# Altium schematic symbol library mysch.SchLib: 34 symbols
Pins are listed as number, name and electrical type; pins without a type are passive.

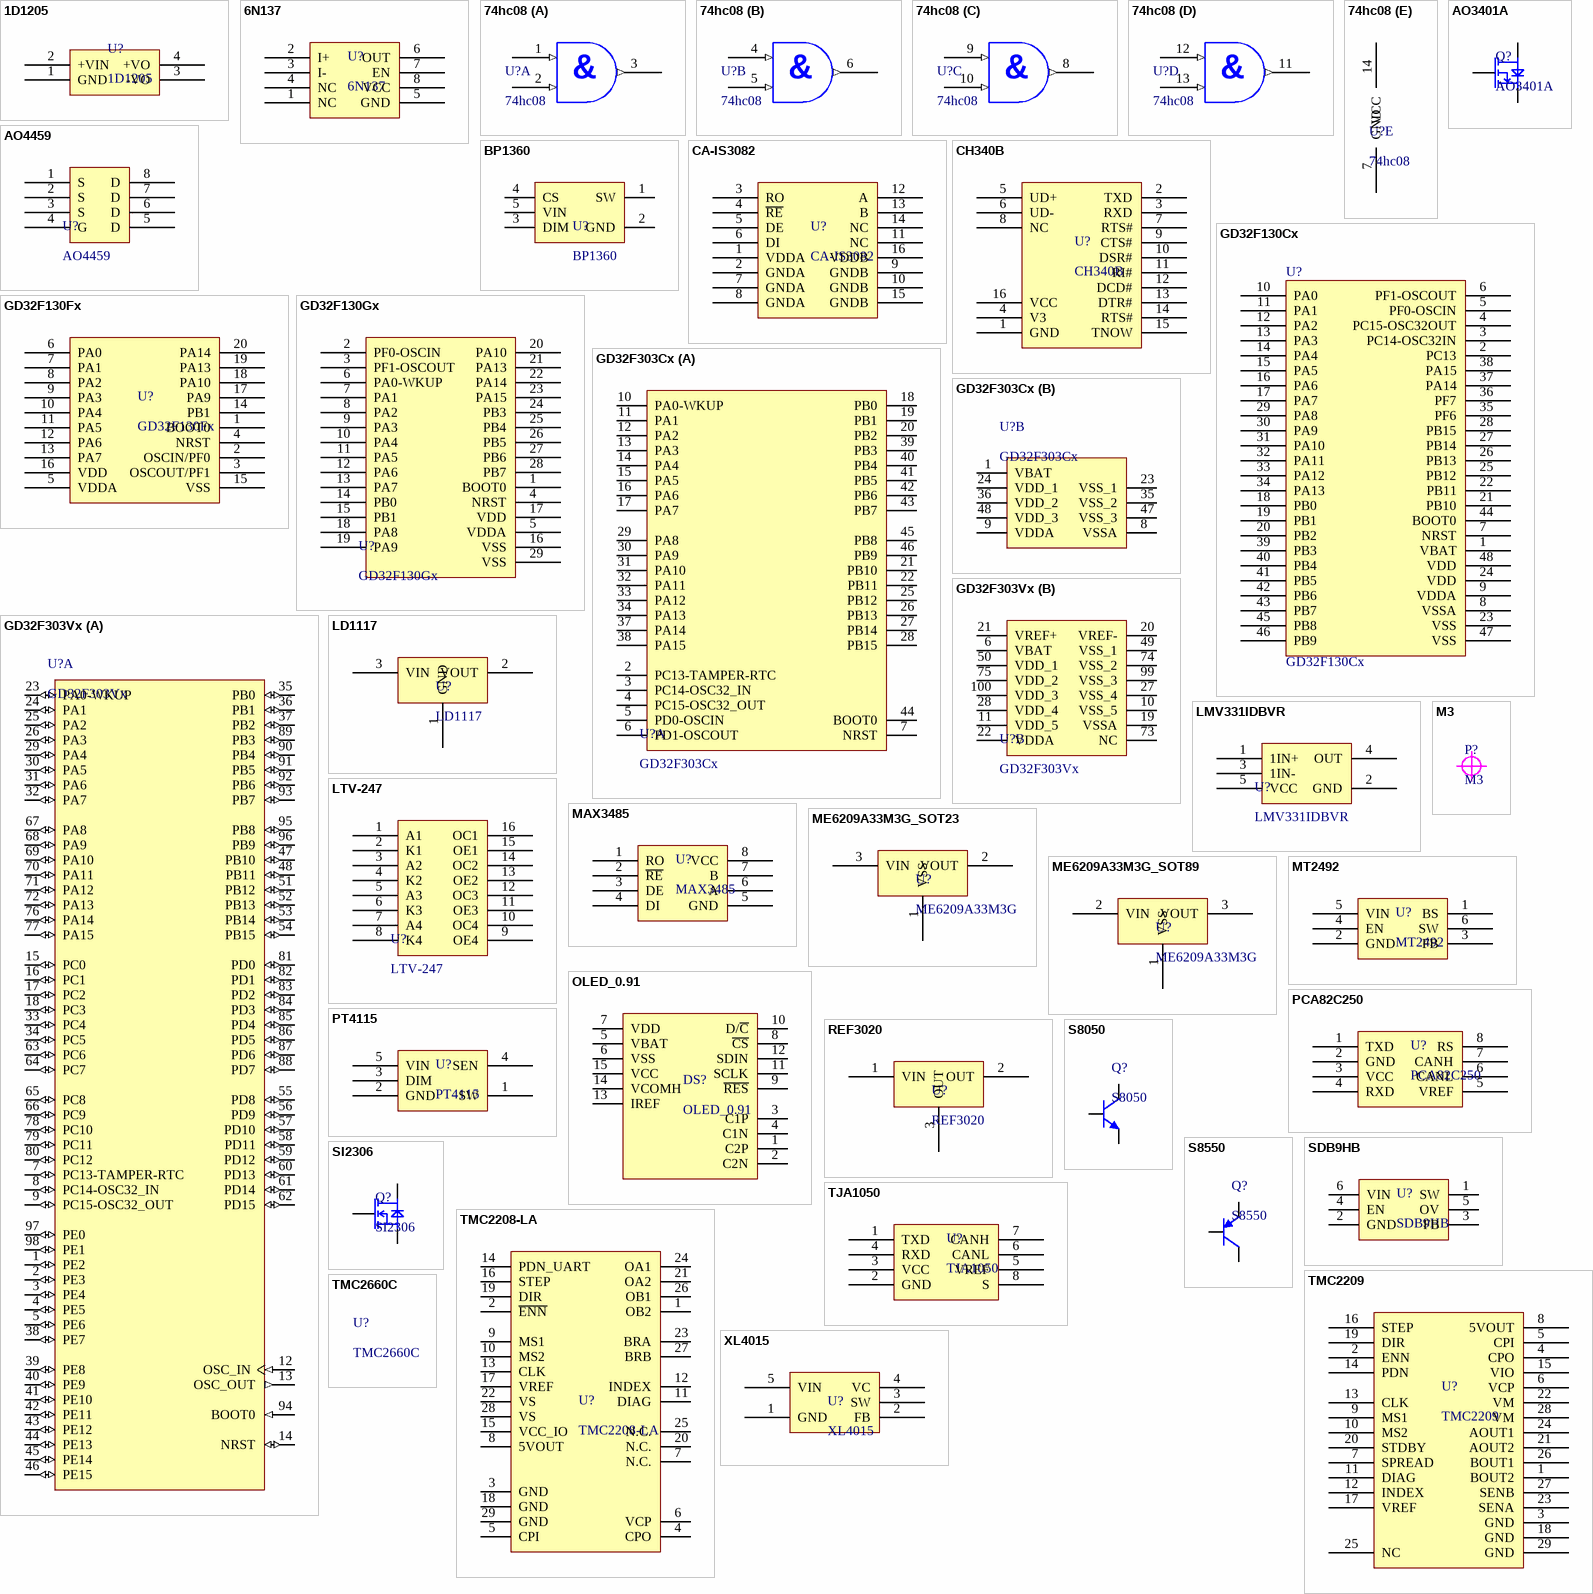
[diagram p0: symbols 1D1205 to XL4015]

## 1D1205
designator U?
DC-DC低功耗隔离非稳压电源模块SIP封装1W
footprint 1D1205
pins: 1 GND, 2 +VIN, 3 -VO, 4 +VO

## 6N137
designator U?
10Mbps 高速数字光耦
footprint 6N137
pins: 1 NC, 2 I+, 3 I-, 4 NC, 5 GND, 6 OUT, 7 EN, 8 VCC

## 74hc08
designator U?
74与门
footprint SOIC-14 (封装库来自淘宝卖家 ID：黄晶宝石，其他均为盗版)
part A pins: 1 IN1 (in), 2 IN2 (in), 3 OUT (out)
part B pins: 4 IN1 (in), 5 IN2 (in), 6 OUT (out)
part C pins: 8 OUT (out), 9 IN1 (in), 10 IN2 (in)
part D pins: 11 OUT (out), 12 IN1 (in), 13 IN2 (in)
part E pins: 7 GND (power), 14 VCC (power)
part A text: &
part B text: &
part C text: &
part D text: &

## AO3401A
designator Q?
MOSFET P沟道 -30V/-4A
footprint SOT23 (封装库来自淘宝卖家 ID：黄晶宝石)
pins: 1 G, 2 S, 3 D

## AO4459
designator U?
SOIC-8 P沟道 -30V/-6.5A 贴片MOSFET
footprint SOIC-8 (封装库来自淘宝卖家 ID：黄晶宝石，其他均为盗版)
pins: 1 S, 2 S, 3 S, 4 G, 5 D, 6 D, 7 D, 8 D

## BP1360
designator U?
30v/500maLED恒流驱动器
footprint Model Name (Footprint not found)
footprint SOT23-5L (3x1.6x1.1mm(长宽高) 封装库来自淘宝卖家 ID：黄晶宝石)
pins: 1 SW, 2 GND, 3 DIM, 4 CS, 5 VIN

## CA-IS3082
designator U?
隔离 5kV 半双工 RS485 收发器
footprint SOIC-16W (封装库来自淘宝卖家 ID：黄晶宝石，其他均为盗版)
pins: 1 VDDA, 2 GNDA, 3 RO, 4 ~{RE}, 5 DE, 6 DI, 7 GNDA, 8 GNDA, 9 GNDB, 10 GNDB, 11 NC, 12 A, 13 B, 14 NC, 15 GNDB, 16 VDDB

## CH340B
designator U?
CH340是一个USB总线的转接芯片，实现USB转串口或者USB转打印口
footprint SOP16_N (10.3*6.2*1.8mm（长宽高）封装库来自淘宝卖家 ID：黄晶宝石)
pins: 1 GND, 2 TXD, 3 RXD, 4 V3, 5 UD+, 6 UD-, 7 RTS#, 8 NC, 9 CTS#, 10 DSR#, 11 RI#, 12 DCD#, 13 DTR#, 14 RTS#, 15 TNOW, 16 VCC

## GD32F130Cx
designator U?
廉价的国产小作坊小芯片
footprint LQFP48_N (封装库来自淘宝 ID：黄晶宝石 Thin QFP, 48-Leads, Body 7x7mm, Pitch 0.5mm, IPC Medium Density)
pins: 1 VBAT, 2 PC13, 3 PC14-OSC32IN, 4 PC15-OSC32OUT, 5 PF0-OSCIN, 6 PF1-OSCOUT, 7 NRST, 8 VSSA, 9 VDDA, 10 PA0, 11 PA1, 12 PA2, 13 PA3, 14 PA4, 15 PA5, 16 PA6, 17 PA7, 18 PB0, 19 PB1, 20 PB2, 21 PB10, 22 PB11, 23 VSS, 24 VDD, 25 PB12, 26 PB13, 27 PB14, 28 PB15, 29 PA8, 30 PA9, 31 PA10, 32 PA11, 33 PA12, 34 PA13, 35 PF6, 36 PF7, 37 PA14, 38 PA15, 39 PB3, 40 PB4, 41 PB5, 42 PB6, 43 PB7, 44 BOOT0, 45 PB8, 46 PB9, 47 VSS, 48 VDD

## GD32F130Fx
designator U?
廉价的国产小作坊小芯片
footprint TSSOP20_N (TSOP, 20-Leads, Body 6.5x4.4mm, Pitch 0.65mm, IPC Medium Density)
pins: 1 BOOT0, 2 OSCIN/PF0, 3 OSCOUT/PF1, 4 NRST, 5 VDDA, 6 PA0, 7 PA1, 8 PA2, 9 PA3, 10 PA4, 11 PA5, 12 PA6, 13 PA7, 14 PB1, 15 VSS, 16 VDD, 17 PA9, 18 PA10, 19 PA13, 20 PA14

## GD32F130Gx
designator U?
廉价的国产小作坊小芯片
footprint QFN28 4X4_N
pins: 1 BOOT0, 2 PF0-OSCIN, 3 PF1-OSCOUT, 4 NRST, 5 VDDA, 6 PA0-WKUP, 7 PA1, 8 PA2, 9 PA3, 10 PA4, 11 PA5, 12 PA6, 13 PA7, 14 PB0, 15 PB1, 16 VSS, 17 VDD, 18 PA8, 19 PA9, 20 PA10, 21 PA13, 22 PA14, 23 PA15, 24 PB3, 25 PB4, 26 PB5, 27 PB6, 28 PB7, 29 VSS

## GD32F303Cx
designator U?
廉价的国产小作坊小芯片; 优秀评价可免费更新: 联系淘宝ID：黄晶宝石，获取更新版封装库; 卖家免费技术支持，联系售后: 唯一出售店铺网址https://shop463601444.taobao.com; 封装库来自淘宝卖家 ID：黄晶宝石: 其他店铺购入均为假冒，请申请退款，本店现金奖励; DatasheetVersion: rev13.0, Apr-2011; PackageVersion: rev13, Apr-2011; PackageReference: LQFP48; PackageDescription: 48-Pin Low-Profile Quad Flat Pack, 7 x 7 mm Body, 0.5 mm Pitch (LQFP48)
footprint LQFP48_N (Thin QFP, 48-Leads, Body 7x7mm, Pitch 0.5mm, IPC Medium Density)
footprint LQFP48_L (Thin QFP, 48-Leads, Body 7x7mm, Pitch 0.5mm, IPC High Density)
footprint LQFP48_M (Thin QFP, 48-Leads, Body 7x7mm, Pitch 0.5mm, IPC Low Density)
part A pins: 2 PC13-TAMPER-RTC, 3 PC14-OSC32_IN, 4 PC15-OSC32_OUT, 5 PD0-OSCIN, 6 PD1-OSCOUT, 7 NRST, 10 PA0-WKUP, 11 PA1, 12 PA2, 13 PA3, 14 PA4, 15 PA5, 16 PA6, 17 PA7, 18 PB0, 19 PB1, 20 PB2, 21 PB10, 22 PB11, 25 PB12, 26 PB13, 27 PB14, 28 PB15, 29 PA8, 30 PA9, 31 PA10, 32 PA11, 33 PA12, 34 PA13, 37 PA14, 38 PA15, 39 PB3, 40 PB4, 41 PB5, 42 PB6, 43 PB7, 44 BOOT0, 45 PB8, 46 PB9
part B pins: 1 VBAT (power), 8 VSSA (power), 9 VDDA (power), 23 VSS_1 (power), 24 VDD_1 (power), 35 VSS_2 (power), 36 VDD_2 (power), 47 VSS_3 (power), 48 VDD_3 (power)

## GD32F303Vx
designator U?
廉价的国产小作坊大芯片; 优秀评价可免费更新: 联系淘宝ID：黄晶宝石，获取更新版封装库; 卖家免费技术支持，联系售后: 唯一出售店铺网址https://shop463601444.taobao.com; 封装库来自淘宝卖家 ID：黄晶宝石: 其他店铺购入均为假冒，请申请退款，本店现金奖励; DatasheetVersion: rev8.0, Apr-2011; PackageVersion: rev13, Apr-2011; PackageReference: LQFP100; PackageDescription: 100-Pin Low-Profile Quad Flat Pack, 14 x 14 mm Body, 0.5 mm Pitch (LQFP100)
footprint LQFP100_N (Thin QFP, 100-Leads, Body 14x14mm, Pitch 0.5mm, IPC Medium Density)
footprint LQFP100_L (Thin QFP, 100-Leads, Body 14x14mm, Pitch 0.5mm, IPC High Density)
footprint LQFP100_M (Thin QFP, 100-Leads, Body 14x14mm, Pitch 0.5mm, IPC Low Density)
part A pins: 1 PE2 (io), 2 PE3 (io), 3 PE4 (io), 4 PE5 (io), 5 PE6 (io), 7 PC13-TAMPER-RTC (io), 8 PC14-OSC32_IN (io), 9 PC15-OSC32_OUT (io), 12 OSC_IN (in), 13 OSC_OUT (out), 14 NRST (io), 15 PC0 (io), 16 PC1 (io), 17 PC2 (io), 18 PC3 (io), 23 PA0-WKUP (io), 24 PA1 (io), 25 PA2 (io), 26 PA3 (io), 29 PA4 (io), 30 PA5 (io), 31 PA6 (io), 32 PA7 (io), 33 PC4 (io), 34 PC5 (io), 35 PB0 (io), 36 PB1 (io), 37 PB2 (io), 38 PE7 (io), 39 PE8 (io), 40 PE9 (io), 41 PE10 (io), 42 PE11 (io), 43 PE12 (io), 44 PE13 (io), 45 PE14 (io), 46 PE15 (io), 47 PB10 (io), 48 PB11 (io), 51 PB12 (io), 52 PB13 (io), 53 PB14 (io), 54 PB15 (io), 55 PD8 (io), 56 PD9 (io), 57 PD10 (io), 58 PD11 (io), 59 PD12 (io), 60 PD13 (io), 61 PD14 (io), 62 PD15 (io), 63 PC6 (io), 64 PC7 (io), 65 PC8 (io), 66 PC9 (io), 67 PA8 (io), 68 PA9 (io), 69 PA10 (io), 70 PA11 (io), 71 PA12 (io), 72 PA13 (io), 76 PA14 (io), 77 PA15 (io), 78 PC10 (io), 79 PC11 (io), 80 PC12 (io), 81 PD0 (io), 82 PD1 (io), 83 PD2 (io), 84 PD3 (io), 85 PD4 (io), 86 PD5 (io), 87 PD6 (io), 88 PD7 (io), 89 PB3 (io), 90 PB4 (io), 91 PB5 (io), 92 PB6 (io), 93 PB7 (io), 94 BOOT0 (in), 95 PB8 (io), 96 PB9 (io), 97 PE0 (io), 98 PE1 (io)
part B pins: 6 VBAT (power), 10 VSS_5 (power), 11 VDD_5 (power), 19 VSSA (power), 20 VREF- (power), 21 VREF+ (power), 22 VDDA (power), 27 VSS_4 (power), 28 VDD_4 (power), 49 VSS_1 (power), 50 VDD_1 (power), 73 NC, 74 VSS_2 (power), 75 VDD_2 (power), 99 VSS_3 (power), 100 VDD_3 (power)

## LD1117
designator U?
footprint SOT-223 (SOT-223/SC-73; 4 Leads; Body 6.7 x 7.3 mm, inc. leads (LxW max))
pins: 1 GND, 2 VOUT, 3 VIN

## LMV331IDBVR
designator U?
2.7~5v 单通道比较器
footprint SOT23-5n (3x1.6x1.1mm(长宽高)  封装库来自淘宝卖家 ID：黄晶宝石)
pins: 1 1IN+, 2 GND, 3 1IN-, 4 OUT, 5 VCC

## LTV-247
designator U?
四路光耦
footprint SOP16_N (10.3*6.2*1.8mm（长宽高）封装库来自淘宝卖家 ID：黄晶宝石)
pins: 1 A1, 2 K1, 3 A2, 4 K2, 5 A3, 6 K3, 7 A4, 8 K4, 9 OE4, 10 OC4, 11 OE3, 12 OC3, 13 OE2, 14 OC2, 15 OE1, 16 OC1

## M3
designator P?
M3安装孔标记
footprint M3x4_N (M3铜柱，长：4mm)
pins: 1 PORT

## MAX3485
designator U?
3.3V 10Mbps RS-485 接口
footprint SOP8_N (5*6*1.8mm（长宽高）封装库来自淘宝卖家 ID：黄晶宝石)
pins: 1 RO, 2 ~{RE}, 3 DE, 4 DI, 5 GND, 6 A, 7 B, 8 VCC

## ME6209A33M3G_SOT23
designator U?, comment ME6209A33M3G
18V输入耐压LDO
footprint SOT23-3n (封装库来自淘宝卖家 ID：黄晶宝石)
pins: 1 VSS, 2 VOUT, 3 VIN

## ME6209A33M3G_SOT89
designator U?, comment ME6209A33M3G
18V输入耐压LDO
footprint SOT89_N (4.6x4.3x1.6mm(长宽高) 封装库来自淘宝卖家 ID：黄晶宝石)
pins: 1 VSS, 2 VIN, 3 VOUT

## MT2492
designator U?
效率高到飞天的国产小芯片
footprint SOT23-6N (3x1.6x1.1mm(长宽高))
pins: 1 BS, 2 GND, 3 FB, 4 EN, 5 VIN, 6 SW

## OLED_0.91
designator DS?
长条形OLED屏
footprint OLED_0.91
pins: 1 C2P, 2 C2N, 3 C1P, 4 C1N, 5 VBAT, 6 VSS, 7 VDD, 8 ~{CS}, 9 ~{RES}, 10 D/~{C}, 11 SCLK, 12 SDIN, 13 IREF, 14 VCOMH, 15 VCC

## PCA82C250
designator U?
CAN 接口
footprint SOP8_N (5*6*1.8mm（长宽高）封装库来自淘宝卖家 ID：黄晶宝石)
pins: 1 TXD, 2 GND, 3 VCC, 4 RXD, 5 VREF, 6 CANL, 7 CANH, 8 RS

## PT4115
designator U?
降压式LED驱动电路
footprint SOT-89-5
pins: 1 SW, 2 GND, 3 DIM, 4 SEN, 5 VIN

## REF3020
designator U?
2.048V 输出 50ppm/℃ 电压基准芯片
footprint SOT23-3n (封装库来自淘宝卖家 ID：黄晶宝石)
pins: 1 VIN, 2 OUT, 3 OUT

## S8050
designator Q?
三极管 NPN; BOM名称: 高频放大-NPN型; 属性: 40V 1.5A 1W 100MHZ; 卖家免费技术支持，联系售后: 唯一出售店铺网址https://shop463601444.taobao.com; 封装库来自淘宝卖家 ID：黄晶宝石: 其他店铺购入均为假冒，请立即申请退款，本店奖励2~5元现金
footprint SOT23-3N (3x1.3x1mm(长宽高))
footprint SOT23-3L (3x1.3x1mm(长宽高))
footprint SOT23-3M (3x1.3x1mm(长宽高))
pins: 1 B, 2 E, 3 C

## S8550
designator Q?
三极管 PNP; BOM名称: 高频放大-PNP型; 属性: 40V 1.5A 1W 100MHZ; 卖家免费技术支持，联系售后: 唯一出售店铺网址https://shop463601444.taobao.com; 封装库来自淘宝卖家 ID：黄晶宝石: 其他店铺购入均为假冒，请立即申请退款，本店奖励2~5元现金
footprint SOT23-3N (3x1.3x1mm(长宽高))
footprint SOT23-3L (3x1.3x1mm(长宽高))
footprint SOT23-3M (3x1.3x1mm(长宽高))
pins: 1 B, 2 E, 3 C

## SDB9HB
designator U?
3V-24V,1.2Mhz,BOOST LED驱动
footprint SOT23-6L (3x1.6x1.1mm(长宽高) 封装库来自淘宝卖家 ID：黄晶宝石)
pins: 1 SW, 2 GND, 3 FB, 4 EN, 5 OV, 6 VIN

## SI2306
designator Q?
MOSFET N沟道 3A GSD
footprint SOT23 (封装库来自淘宝卖家 ID：黄晶宝石)
pins: 1 G, 2 S, 3 D

## TJA1050
designator U?
CAN 接口
footprint SOP8_N (5*6*1.8mm（长宽高）封装库来自淘宝卖家 ID：黄晶宝石)
pins: 1 TXD, 2 GND, 3 VCC, 4 RXD, 5 VREF, 6 CANL, 7 CANH, 8 S

## TMC2208-LA
designator U?
256细分静音步进电机驱动
footprint QFN28 (5mm*5mm  封装库来自淘宝卖家 ID：黄晶宝石)
pins: 1 OB2, 2 ~{ENN}, 3 GND, 4 CPO, 5 CPI, 6 VCP, 7 N.C., 8 5VOUT, 9 MS1, 10 MS2, 11 DIAG, 12 INDEX, 13 CLK, 14 PDN_UART, 15 VCC_IO, 16 STEP, 17 VREF, 18 GND, 19 DIR, 20 N.C., 21 OA2, 22 VS, 23 BRA, 24 OA1, 25 N.C., 26 OB1, 27 BRB, 28 VS, 29 GND

## TMC2209
designator U?
低噪声256 细分微步进电机驱动
footprint QFN28 5x5_N (28脚，长x宽x高：5x5x0.8mm，脚距：0.5mm)
pins: 1 BOUT2, 2 ENN, 3 GND, 4 CPO, 5 CPI, 6 VCP, 7 SPREAD, 8 5VOUT, 9 MS1, 10 MS2, 11 DIAG, 12 INDEX, 13 CLK, 14 PDN, 15 VIO, 16 STEP, 17 VREF, 18 GND, 19 DIR, 20 STDBY, 21 AOUT2, 22 VM, 23 SENA, 24 AOUT1, 25 NC, 26 BOUT1, 27 SENB, 28 VM, 29 GND

## TMC2660C
designator U?

## XL4015
designator U?
输出电流大到飞起的国产大芯片
footprint TO263-5A (263，5脚晶体管  封装库来自淘宝卖家 ID：黄晶宝石)
pins: 1 GND, 2 FB, 3 SW, 4 VC, 5 VIN